# Altium footprint library RTT06102JTP.PcbLib: 3 footprints
Each footprint in its own frame and in the unit in brackets; x right, y up, seen from the top. Pads: shape width x height; smd on the part's side, far side on the other; paste and mask are expansions set on the pad; w line width, h text height; cw(c..) or ccw(c..) is an arc to the next point about the centre after c.
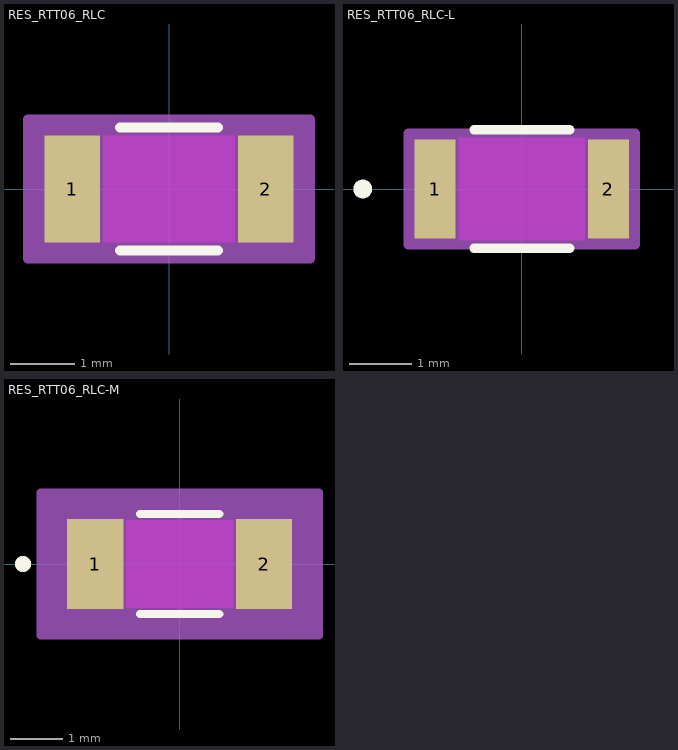
[diagram p0: the footprints below, top view; thin cyan lines are the x and y axes]

## RES_RTT06_RLC [mil]
pads (2):
  rect 34x65 smd paste+0 mask+0: 1(-59,0) 2(59,0)
Top Layer keep-out:
  region: -40,-30.5 -40,30.5 40,30.5 40,-30.5
Top Overlay:
  lines w6: -29.89,-37.5 29.89,-37.5 ; -29.89,37.5 29.89,37.5
  text ".Designator" at -137.5,-25 h50
Keep-Out Layer:
  region: -40,-32.5 -40,32.5 40,32.5 40,-32.5
Mechanical 13:
  lines w1: -62,-32.5 -62,32.5 ; -62,-32.5 62,-32.5 ; -62,-32.5 -42,-32.5 -42,32.5 -62,32.5 ; -62,-32.5 -62,32.5 ; -62,32.5 62,32.5 ; 62,-32.5 62,32.5 ; 62,-32.5 62,32.5 ; 62,-32.5 42,-32.5 42,32.5 62,32.5
  text ".Designator" at -137.5,-25 h50
Mechanical 15:
  region: 86,-42.5 -86,-42.5 -86,42.5 86,42.5
  lines w6: -86,-42.5 86,-42.5 86,42.5 -86,42.5 -86,-42.5
3D body "RES_RTT06_RLC.step": height 24.02, standoff 0, extent -62.01,-32.52 62.01,32.52
3D body "RES_RTT06_RLC.step": height 24.02, standoff 0, extent -62.01,-32.52 62.01,32.52

## RES_RTT06_RLC-L [mil]
pads (2):
  rect 26x63 smd paste+0 mask+0: 1(-55,0) 2(55,0)
Top Layer keep-out:
  region: -40,-30.5 -40,30.5 40,30.5 40,-30.5
Top Overlay:
  circle w6: c-101,0 r3
  lines w6: -30.35,-37.5 30.35,-37.5 ; -30.35,37.5 30.35,37.5
  text ".Designator" at -137.5,-25 h50
Keep-Out Layer:
  region: -40,-32.5 -40,32.5 40,32.5 40,-32.5
Mechanical 13:
  circle w1: c-50,0 r3
  lines w1: -62,-32.5 -62,32.5 ; -62,-32.5 -42,-32.5 -42,32.5 -62,32.5 ; -62,-32.5 62,-32.5 ; -62,-32.5 -62,32.5 ; -62,32.5 62,32.5 ; 62,-32.5 42,-32.5 42,32.5 62,32.5 ; 62,-32.5 62,32.5 ; 62,-32.5 62,32.5
  text ".Designator" at -137.5,-25 h50
Mechanical 15:
  region: 72,-35.5 -72,-35.5 -72,35.5 72,35.5
  lines w6: -72,-35.5 -72,35.5 72,35.5 72,-35.5 -72,-35.5
3D body "RES_RTT06_RLC.step": height 24.02, standoff 0, extent -62.01,-32.52 62.01,32.52

## RES_RTT06_RLC-M [mil]
pads (2):
  rect 42x67 smd paste+0 mask+0: 1(-63,0) 2(63,0)
Top Layer keep-out:
  region: -40,-30.5 -40,30.5 40,30.5 40,-30.5
Top Overlay:
  circle w6: c-117,0 r3
  lines w6: -29.53,-37.5 29.53,-37.5 ; -29.53,37.5 29.53,37.5
  text ".Designator" at -137.5,-25 h50
Keep-Out Layer:
  region: -40,-32.5 -40,32.5 40,32.5 40,-32.5
Mechanical 13:
  circle w1: c-58,0 r3
  lines w1: -62,-32.5 -62,32.5 ; -62,-32.5 -42,-32.5 -42,32.5 -62,32.5 ; -62,-32.5 62,-32.5 ; -62,-32.5 -62,32.5 ; -62,32.5 62,32.5 ; 62,-32.5 42,-32.5 42,32.5 62,32.5 ; 62,-32.5 62,32.5 ; 62,-32.5 62,32.5
  text ".Designator" at -137.5,-25 h50
Mechanical 15:
  region: 104,-53.5 -104,-53.5 -104,53.5 104,53.5
  lines w6: -104,-53.5 -104,53.5 104,53.5 104,-53.5 -104,-53.5
3D body "RES_RTT06_RLC.step": height 24.02, standoff 0, extent -62.01,-32.52 62.01,32.52